# Altium footprint library RES POT.PcbLib: 1 footprints
Each footprint in its own frame and in the unit in brackets; x right, y up, seen from the top. Pads: shape width x height; smd on the part's side, far side on the other; paste and mask are expansions set on the pad; w line width, h text height; cw(c..) or ccw(c..) is an arc to the next point about the centre after c.
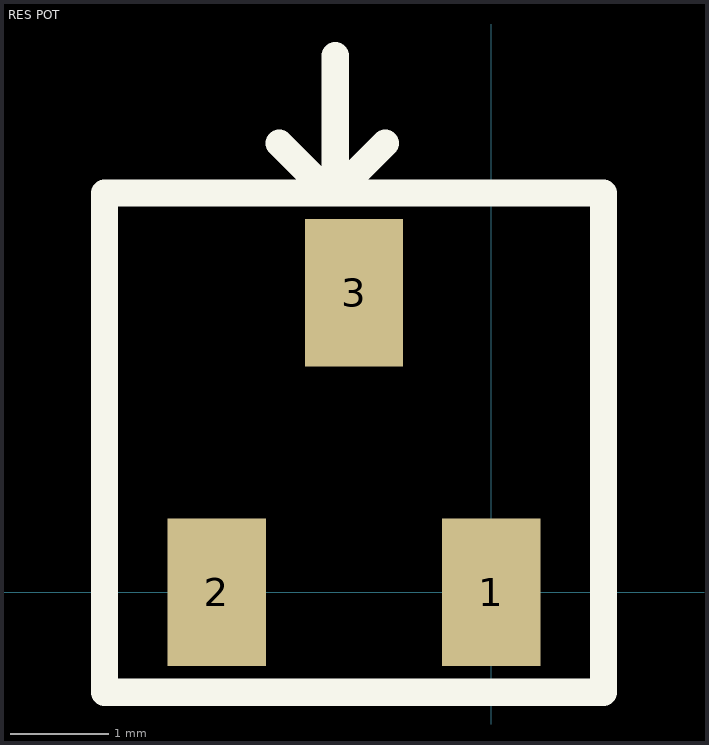
[diagram p0: the footprint, top view; thin cyan lines are the x and y axes]

## RES POT [mm]
pads (3):
  rect 1x1.5 smd: 1(0,0) 2(-2.794,0) 3(-1.397,3.048)
Top Overlay:
  lines w0.278: -2.159,4.572 -1.651,4.064 ; -1.587,5.461 -1.587,4.064 -1.079,4.572 ; -3.937,-1.016 -3.937,4.064 1.143,4.064 1.143,-1.016 -3.937,-1.016